# Altium schematic symbol library TVS2200DRVR.Schlib: 1 symbol
Pins are listed as number, name and electrical type; pins without a type are passive.

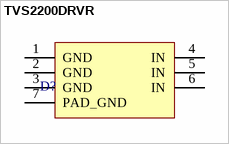
[diagram p0: symbol TVS2200DRVR]

## TVS2200DRVR
designator D?
ESD Protection Diodes / TVS Diodes 22V flat-clamp surge protection
pins: 1 GND, 2 GND, 3 GND, 4 IN, 5 IN, 6 IN, 7 PAD_GND